# Altium footprint library PJ-002A.PcbLib: 2 footprints
Each footprint in its own frame and in the unit in brackets; x right, y up, seen from the top. Pads: shape width x height; smd on the part's side, far side on the other; paste and mask are expansions set on the pad; w line width, h text height; cw(c..) or ccw(c..) is an arc to the next point about the centre after c.
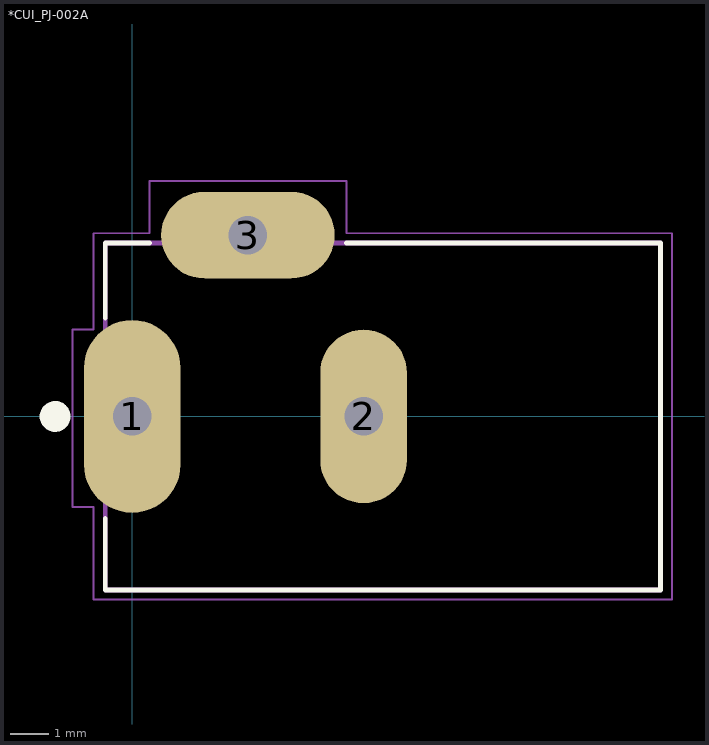
[diagram p0: the footprints below, top view; thin cyan lines are the x and y axes]

## *CUI_PJ-002A [mm]
pads (3):
  oval 2.5x5 hole 1: 1(0,0)
  oval 2.25x4.5 hole 1: 2(6,0)
  oval 4.5x2.25 hole 1: 3(3,4.7)
Top Overlay:
  circle w0.4: c-2,0 r0.2
  lines w0.127: -0.7,-2.65 -0.7,-4.5 13.7,-4.5 13.7,4.5 5.55,4.5 ; -0.7,2.55 -0.7,4.5 0.45,4.5
Mechanical 1:
  lines w0: -0.5,-1.75 -0.5,1.75 0.5,1.75 0.5,-1.75 -0.5,-1.75 ; 1.5,4.2 4.5,4.2 4.5,5.2 1.5,5.2 1.5,4.2 ; 5.5,-1.5 5.5,1.5 6.5,1.5 6.5,-1.5 5.5,-1.5
Mechanical 4:
  lines w0.127: -0.7,-4.5 -0.7,4.5 ; -0.7,-4.5 13.7,-4.5 ; -0.7,-4.5 -0.7,4.5 ; -0.7,-4.5 13.7,-4.5 ; -0.7,4.5 13.7,4.5 ; -0.7,4.5 13.7,4.5 ; 13.7,-4.5 13.7,4.5 ; 13.7,-4.5 13.7,4.5
Mechanical 16:
  lines w0.05: -1.55,-2.35 -1,-2.35 -1,-4.75 14,-4.75 14,4.75 5.55,4.75 5.55,6.1 0.45,6.1 0.45,4.75 -1,4.75 -1,2.25 -1.55,2.25 -1.55,-2.35
3D body "pj-057bh.stp": height 11.01, standoff -3.39, extent -0.9,-4.597 13.6,4.953

## PCBComponent_1 [mm]